# Altium integrated library Vishay Vitramon Ceramic Dipped Capacitor.IntLib: 3117 symbols (part 23 of 35)
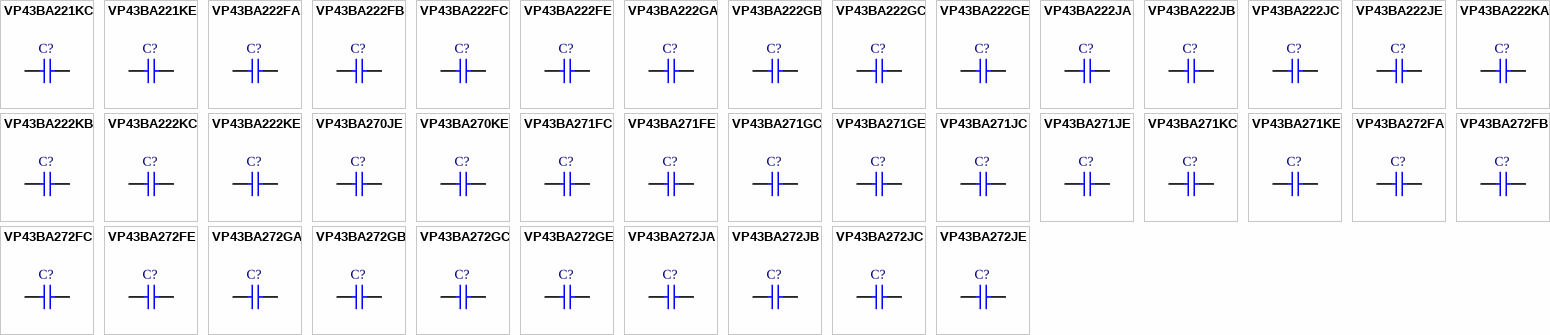
[diagram p99: symbols VP43BA221KC to VP43BA272JE]

## VP43BA222FE
designator C?
Dipped Radial Multilayer Ceramic Capacitor COG (NPO): 2200pF, 500V; Value: 2.2nF; Published: 17-Dec-2003; DatasheetDocument: 7-Jan-2002; PackageDocument: 7-Jan-2002; PackageReference: VP43-3.2; Publisher: Altium Limited; ComponentLink1Description: Manufacturer Link; ComponentLink1URL: http://www.vishay.com/
footprint VP43-3.2 (Capacitor, Ceramic, Thru-Hole, Dipped Radial; Body 6.8 x 3.2 mm (WxT) Pin Spacing 5.08 mm (typ))
simulation model CAP (Capacitor)
signal-integrity model Cap
pins: 1, 2

## VP43BA222GA
designator C?
Dipped Radial Multilayer Ceramic Capacitor COG (NPO): 2200pF, 50/63V; Note: See Datasheet for other packages & tolerances; Value: 2.2nF; Published: 17-Dec-2003; DatasheetDocument: 2-Jan-2002; PackageDocument: 8-Feb-2002; PackageReference: VP43-2.5; Publisher: Altium Limited; ComponentLink1Description: Manufacturer Link; ComponentLink1URL: http://www.vishay.com/
footprint VP43-2.5 (Capacitor, Ceramic, Thru-Hole, Dipped Radial; Body 6.8 x 2.5 mm (WxT) Pin Spacing 5.08 mm (typ))
simulation model CAP (Capacitor)
signal-integrity model Cap
pins: 1, 2

## VP43BA222GB
designator C?
Dipped Radial Multilayer Ceramic Capacitor COG (NPO): 2200pF, 100V; Note: See Datasheet for other packages & tolerances; Value: 2.2nF; Published: 17-Dec-2003; DatasheetDocument: 2-Jan-2002; PackageDocument: 8-Feb-2002; PackageReference: VP43-2.5; Publisher: Altium Limited; ComponentLink1Description: Manufacturer Link; ComponentLink1URL: http://www.vishay.com/
footprint VP43-2.5 (Capacitor, Ceramic, Thru-Hole, Dipped Radial; Body 6.8 x 2.5 mm (WxT) Pin Spacing 5.08 mm (typ))
simulation model CAP (Capacitor)
signal-integrity model Cap
pins: 1, 2

## VP43BA222GC
designator C?
Dipped Radial Multilayer Ceramic Capacitor COG (NPO): 2200pF, 200V; Value: 2.2nF; Published: 17-Dec-2003; DatasheetDocument: 7-Jan-2002; PackageDocument: 7-Jan-2002; PackageReference: VP43-3.2; Publisher: Altium Limited; ComponentLink1Description: Manufacturer Link; ComponentLink1URL: http://www.vishay.com/
footprint VP43-3.2 (Capacitor, Ceramic, Thru-Hole, Dipped Radial; Body 6.8 x 3.2 mm (WxT) Pin Spacing 5.08 mm (typ))
simulation model CAP (Capacitor)
signal-integrity model Cap
pins: 1, 2

## VP43BA222GE
designator C?
Dipped Radial Multilayer Ceramic Capacitor COG (NPO): 2200pF, 500V; Value: 2.2nF; Published: 17-Dec-2003; DatasheetDocument: 7-Jan-2002; PackageDocument: 7-Jan-2002; PackageReference: VP43-3.2; Publisher: Altium Limited; ComponentLink1Description: Manufacturer Link; ComponentLink1URL: http://www.vishay.com/
footprint VP43-3.2 (Capacitor, Ceramic, Thru-Hole, Dipped Radial; Body 6.8 x 3.2 mm (WxT) Pin Spacing 5.08 mm (typ))
simulation model CAP (Capacitor)
signal-integrity model Cap
pins: 1, 2

## VP43BA222JA
designator C?
Dipped Radial Multilayer Ceramic Capacitor COG (NPO): 2200pF, 50/63V; Note: See Datasheet for other packages & tolerances; Value: 2.2nF; Published: 17-Dec-2003; DatasheetDocument: 2-Jan-2002; PackageDocument: 8-Feb-2002; PackageReference: VP43-2.5; Publisher: Altium Limited; ComponentLink1Description: Manufacturer Link; ComponentLink1URL: http://www.vishay.com/
footprint VP43-2.5 (Capacitor, Ceramic, Thru-Hole, Dipped Radial; Body 6.8 x 2.5 mm (WxT) Pin Spacing 5.08 mm (typ))
simulation model CAP (Capacitor)
signal-integrity model Cap
pins: 1, 2

## VP43BA222JB
designator C?
Dipped Radial Multilayer Ceramic Capacitor COG (NPO): 2200pF, 100V; Note: See Datasheet for other packages & tolerances; Value: 2.2nF; Published: 17-Dec-2003; DatasheetDocument: 2-Jan-2002; PackageDocument: 8-Feb-2002; PackageReference: VP43-2.5; Publisher: Altium Limited; ComponentLink1Description: Manufacturer Link; ComponentLink1URL: http://www.vishay.com/
footprint VP43-2.5 (Capacitor, Ceramic, Thru-Hole, Dipped Radial; Body 6.8 x 2.5 mm (WxT) Pin Spacing 5.08 mm (typ))
simulation model CAP (Capacitor)
signal-integrity model Cap
pins: 1, 2

## VP43BA222JC
designator C?
Dipped Radial Multilayer Ceramic Capacitor COG (NPO): 2200pF, 200V; Value: 2.2nF; Published: 17-Dec-2003; DatasheetDocument: 7-Jan-2002; PackageDocument: 7-Jan-2002; PackageReference: VP43-3.2; Publisher: Altium Limited; ComponentLink1Description: Manufacturer Link; ComponentLink1URL: http://www.vishay.com/
footprint VP43-3.2 (Capacitor, Ceramic, Thru-Hole, Dipped Radial; Body 6.8 x 3.2 mm (WxT) Pin Spacing 5.08 mm (typ))
simulation model CAP (Capacitor)
signal-integrity model Cap
pins: 1, 2

## VP43BA222JE
designator C?
Dipped Radial Multilayer Ceramic Capacitor COG (NPO): 2200pF, 500V; Value: 2.2nF; Published: 17-Dec-2003; DatasheetDocument: 7-Jan-2002; PackageDocument: 7-Jan-2002; PackageReference: VP43-3.2; Publisher: Altium Limited; ComponentLink1Description: Manufacturer Link; ComponentLink1URL: http://www.vishay.com/
footprint VP43-3.2 (Capacitor, Ceramic, Thru-Hole, Dipped Radial; Body 6.8 x 3.2 mm (WxT) Pin Spacing 5.08 mm (typ))
simulation model CAP (Capacitor)
signal-integrity model Cap
pins: 1, 2

## VP43BA222KA
designator C?
Dipped Radial Multilayer Ceramic Capacitor COG (NPO): 2200pF, 50/63V; Note: See Datasheet for other packages & tolerances; Value: 2.2nF; Published: 17-Dec-2003; DatasheetDocument: 2-Jan-2002; PackageDocument: 8-Feb-2002; PackageReference: VP43-2.5; Publisher: Altium Limited; ComponentLink1Description: Manufacturer Link; ComponentLink1URL: http://www.vishay.com/
footprint VP43-2.5 (Capacitor, Ceramic, Thru-Hole, Dipped Radial; Body 6.8 x 2.5 mm (WxT) Pin Spacing 5.08 mm (typ))
simulation model CAP (Capacitor)
signal-integrity model Cap
pins: 1, 2

## VP43BA222KB
designator C?
Dipped Radial Multilayer Ceramic Capacitor COG (NPO): 2200pF, 100V; Note: See Datasheet for other packages & tolerances; Value: 2.2nF; Published: 17-Dec-2003; DatasheetDocument: 2-Jan-2002; PackageDocument: 8-Feb-2002; PackageReference: VP43-2.5; Publisher: Altium Limited; ComponentLink1Description: Manufacturer Link; ComponentLink1URL: http://www.vishay.com/
footprint VP43-2.5 (Capacitor, Ceramic, Thru-Hole, Dipped Radial; Body 6.8 x 2.5 mm (WxT) Pin Spacing 5.08 mm (typ))
simulation model CAP (Capacitor)
signal-integrity model Cap
pins: 1, 2

## VP43BA222KC
designator C?
Dipped Radial Multilayer Ceramic Capacitor COG (NPO): 2200pF, 200V; Value: 2.2nF; Published: 17-Dec-2003; DatasheetDocument: 7-Jan-2002; PackageDocument: 7-Jan-2002; PackageReference: VP43-3.2; Publisher: Altium Limited; ComponentLink1Description: Manufacturer Link; ComponentLink1URL: http://www.vishay.com/
footprint VP43-3.2 (Capacitor, Ceramic, Thru-Hole, Dipped Radial; Body 6.8 x 3.2 mm (WxT) Pin Spacing 5.08 mm (typ))
simulation model CAP (Capacitor)
signal-integrity model Cap
pins: 1, 2

## VP43BA222KE
designator C?
Dipped Radial Multilayer Ceramic Capacitor COG (NPO): 2200pF, 500V; Value: 2.2nF; Published: 17-Dec-2003; DatasheetDocument: 7-Jan-2002; PackageDocument: 7-Jan-2002; PackageReference: VP43-3.2; Publisher: Altium Limited; ComponentLink1Description: Manufacturer Link; ComponentLink1URL: http://www.vishay.com/
footprint VP43-3.2 (Capacitor, Ceramic, Thru-Hole, Dipped Radial; Body 6.8 x 3.2 mm (WxT) Pin Spacing 5.08 mm (typ))
simulation model CAP (Capacitor)
signal-integrity model Cap
pins: 1, 2

## VP43BA270JE
designator C?
Dipped Radial Multilayer Ceramic Capacitor COG (NPO): 27pF, 500V; Published: 17-Dec-2003; DatasheetDocument: 7-Jan-2002; PackageDocument: 7-Jan-2002; PackageReference: VP43-3.2; Publisher: Altium Limited; ComponentLink1Description: Manufacturer Link; ComponentLink1URL: http://www.vishay.com/; Value: 27pF
footprint VP43-3.2 (Capacitor, Ceramic, Thru-Hole, Dipped Radial; Body 6.8 x 3.2 mm (WxT) Pin Spacing 5.08 mm (typ))
simulation model CAP (Capacitor)
signal-integrity model Cap
pins: 1, 2

## VP43BA270KE
designator C?
Dipped Radial Multilayer Ceramic Capacitor COG (NPO): 27pF, 500V; Published: 17-Dec-2003; DatasheetDocument: 7-Jan-2002; PackageDocument: 7-Jan-2002; PackageReference: VP43-3.2; Publisher: Altium Limited; ComponentLink1Description: Manufacturer Link; ComponentLink1URL: http://www.vishay.com/; Value: 27pF
footprint VP43-3.2 (Capacitor, Ceramic, Thru-Hole, Dipped Radial; Body 6.8 x 3.2 mm (WxT) Pin Spacing 5.08 mm (typ))
simulation model CAP (Capacitor)
signal-integrity model Cap
pins: 1, 2

## VP43BA271FC
designator C?
Dipped Radial Multilayer Ceramic Capacitor COG (NPO): 270pF, 200V; Published: 17-Dec-2003; DatasheetDocument: 7-Jan-2002; PackageDocument: 7-Jan-2002; PackageReference: VP43-3.2; Publisher: Altium Limited; ComponentLink1Description: Manufacturer Link; ComponentLink1URL: http://www.vishay.com/; Value: 270pF
footprint VP43-3.2 (Capacitor, Ceramic, Thru-Hole, Dipped Radial; Body 6.8 x 3.2 mm (WxT) Pin Spacing 5.08 mm (typ))
simulation model CAP (Capacitor)
signal-integrity model Cap
pins: 1, 2

## VP43BA271FE
designator C?
Dipped Radial Multilayer Ceramic Capacitor COG (NPO): 270pF, 500V; Published: 17-Dec-2003; DatasheetDocument: 7-Jan-2002; PackageDocument: 7-Jan-2002; PackageReference: VP43-3.2; Publisher: Altium Limited; ComponentLink1Description: Manufacturer Link; ComponentLink1URL: http://www.vishay.com/; Value: 270pF
footprint VP43-3.2 (Capacitor, Ceramic, Thru-Hole, Dipped Radial; Body 6.8 x 3.2 mm (WxT) Pin Spacing 5.08 mm (typ))
simulation model CAP (Capacitor)
signal-integrity model Cap
pins: 1, 2

## VP43BA271GC
designator C?
Dipped Radial Multilayer Ceramic Capacitor COG (NPO): 270pF, 200V; Published: 17-Dec-2003; DatasheetDocument: 7-Jan-2002; PackageDocument: 7-Jan-2002; PackageReference: VP43-3.2; Publisher: Altium Limited; ComponentLink1Description: Manufacturer Link; ComponentLink1URL: http://www.vishay.com/; Value: 270pF
footprint VP43-3.2 (Capacitor, Ceramic, Thru-Hole, Dipped Radial; Body 6.8 x 3.2 mm (WxT) Pin Spacing 5.08 mm (typ))
simulation model CAP (Capacitor)
signal-integrity model Cap
pins: 1, 2

## VP43BA271GE
designator C?
Dipped Radial Multilayer Ceramic Capacitor COG (NPO): 270pF, 500V; Published: 17-Dec-2003; DatasheetDocument: 7-Jan-2002; PackageDocument: 7-Jan-2002; PackageReference: VP43-3.2; Publisher: Altium Limited; ComponentLink1Description: Manufacturer Link; ComponentLink1URL: http://www.vishay.com/; Value: 270pF
footprint VP43-3.2 (Capacitor, Ceramic, Thru-Hole, Dipped Radial; Body 6.8 x 3.2 mm (WxT) Pin Spacing 5.08 mm (typ))
simulation model CAP (Capacitor)
signal-integrity model Cap
pins: 1, 2

## VP43BA271JC
designator C?
Dipped Radial Multilayer Ceramic Capacitor COG (NPO): 270pF, 200V; Published: 17-Dec-2003; DatasheetDocument: 7-Jan-2002; PackageDocument: 7-Jan-2002; PackageReference: VP43-3.2; Publisher: Altium Limited; ComponentLink1Description: Manufacturer Link; ComponentLink1URL: http://www.vishay.com/; Value: 270pF
footprint VP43-3.2 (Capacitor, Ceramic, Thru-Hole, Dipped Radial; Body 6.8 x 3.2 mm (WxT) Pin Spacing 5.08 mm (typ))
simulation model CAP (Capacitor)
signal-integrity model Cap
pins: 1, 2

## VP43BA271JE
designator C?
Dipped Radial Multilayer Ceramic Capacitor COG (NPO): 270pF, 500V; Published: 17-Dec-2003; DatasheetDocument: 7-Jan-2002; PackageDocument: 7-Jan-2002; PackageReference: VP43-3.2; Publisher: Altium Limited; ComponentLink1Description: Manufacturer Link; ComponentLink1URL: http://www.vishay.com/; Value: 270pF
footprint VP43-3.2 (Capacitor, Ceramic, Thru-Hole, Dipped Radial; Body 6.8 x 3.2 mm (WxT) Pin Spacing 5.08 mm (typ))
simulation model CAP (Capacitor)
signal-integrity model Cap
pins: 1, 2

## VP43BA271KC
designator C?
Dipped Radial Multilayer Ceramic Capacitor COG (NPO): 270pF, 200V; Published: 17-Dec-2003; DatasheetDocument: 7-Jan-2002; PackageDocument: 7-Jan-2002; PackageReference: VP43-3.2; Publisher: Altium Limited; ComponentLink1Description: Manufacturer Link; ComponentLink1URL: http://www.vishay.com/; Value: 270pF
footprint VP43-3.2 (Capacitor, Ceramic, Thru-Hole, Dipped Radial; Body 6.8 x 3.2 mm (WxT) Pin Spacing 5.08 mm (typ))
simulation model CAP (Capacitor)
signal-integrity model Cap
pins: 1, 2

## VP43BA271KE
designator C?
Dipped Radial Multilayer Ceramic Capacitor COG (NPO): 270pF, 500V; Published: 17-Dec-2003; DatasheetDocument: 7-Jan-2002; PackageDocument: 7-Jan-2002; PackageReference: VP43-3.2; Publisher: Altium Limited; ComponentLink1Description: Manufacturer Link; ComponentLink1URL: http://www.vishay.com/; Value: 270pF
footprint VP43-3.2 (Capacitor, Ceramic, Thru-Hole, Dipped Radial; Body 6.8 x 3.2 mm (WxT) Pin Spacing 5.08 mm (typ))
simulation model CAP (Capacitor)
signal-integrity model Cap
pins: 1, 2

## VP43BA272FA
designator C?
Dipped Radial Multilayer Ceramic Capacitor COG (NPO): 2700pF, 50/63V; Note: See Datasheet for other packages & tolerances; Value: 2.7nF; Published: 17-Dec-2003; DatasheetDocument: 2-Jan-2002; PackageDocument: 8-Feb-2002; PackageReference: VP43-2.5; Publisher: Altium Limited; ComponentLink1Description: Manufacturer Link; ComponentLink1URL: http://www.vishay.com/
footprint VP43-2.5 (Capacitor, Ceramic, Thru-Hole, Dipped Radial; Body 6.8 x 2.5 mm (WxT) Pin Spacing 5.08 mm (typ))
simulation model CAP (Capacitor)
signal-integrity model Cap
pins: 1, 2

## VP43BA272FB
designator C?
Dipped Radial Multilayer Ceramic Capacitor COG (NPO): 2700pF, 100V; Note: See Datasheet for other packages & tolerances; Value: 2.7nF; Published: 17-Dec-2003; DatasheetDocument: 2-Jan-2002; PackageDocument: 8-Feb-2002; PackageReference: VP43-2.5; Publisher: Altium Limited; ComponentLink1Description: Manufacturer Link; ComponentLink1URL: http://www.vishay.com/
footprint VP43-2.5 (Capacitor, Ceramic, Thru-Hole, Dipped Radial; Body 6.8 x 2.5 mm (WxT) Pin Spacing 5.08 mm (typ))
simulation model CAP (Capacitor)
signal-integrity model Cap
pins: 1, 2

## VP43BA272FC
designator C?
Dipped Radial Multilayer Ceramic Capacitor COG (NPO): 2700pF, 200V; Value: 2.7nF; Published: 17-Dec-2003; DatasheetDocument: 7-Jan-2002; PackageDocument: 7-Jan-2002; PackageReference: VP43-3.2; Publisher: Altium Limited; ComponentLink1Description: Manufacturer Link; ComponentLink1URL: http://www.vishay.com/
footprint VP43-3.2 (Capacitor, Ceramic, Thru-Hole, Dipped Radial; Body 6.8 x 3.2 mm (WxT) Pin Spacing 5.08 mm (typ))
simulation model CAP (Capacitor)
signal-integrity model Cap
pins: 1, 2

## VP43BA272FE
designator C?
Dipped Radial Multilayer Ceramic Capacitor COG (NPO): 2700pF, 500V; Value: 2.7nF; Published: 17-Dec-2003; DatasheetDocument: 7-Jan-2002; PackageDocument: 7-Jan-2002; PackageReference: VP43-3.2; Publisher: Altium Limited; ComponentLink1Description: Manufacturer Link; ComponentLink1URL: http://www.vishay.com/
footprint VP43-3.2 (Capacitor, Ceramic, Thru-Hole, Dipped Radial; Body 6.8 x 3.2 mm (WxT) Pin Spacing 5.08 mm (typ))
simulation model CAP (Capacitor)
signal-integrity model Cap
pins: 1, 2

## VP43BA272GA
designator C?
Dipped Radial Multilayer Ceramic Capacitor COG (NPO): 2700pF, 50/63V; Note: See Datasheet for other packages & tolerances; Value: 2.7nF; Published: 17-Dec-2003; DatasheetDocument: 2-Jan-2002; PackageDocument: 8-Feb-2002; PackageReference: VP43-2.5; Publisher: Altium Limited; ComponentLink1Description: Manufacturer Link; ComponentLink1URL: http://www.vishay.com/
footprint VP43-2.5 (Capacitor, Ceramic, Thru-Hole, Dipped Radial; Body 6.8 x 2.5 mm (WxT) Pin Spacing 5.08 mm (typ))
simulation model CAP (Capacitor)
signal-integrity model Cap
pins: 1, 2

## VP43BA272GB
designator C?
Dipped Radial Multilayer Ceramic Capacitor COG (NPO): 2700pF, 100V; Note: See Datasheet for other packages & tolerances; Value: 2.7nF; Published: 17-Dec-2003; DatasheetDocument: 2-Jan-2002; PackageDocument: 8-Feb-2002; PackageReference: VP43-2.5; Publisher: Altium Limited; ComponentLink1Description: Manufacturer Link; ComponentLink1URL: http://www.vishay.com/
footprint VP43-2.5 (Capacitor, Ceramic, Thru-Hole, Dipped Radial; Body 6.8 x 2.5 mm (WxT) Pin Spacing 5.08 mm (typ))
simulation model CAP (Capacitor)
signal-integrity model Cap
pins: 1, 2

## VP43BA272GC
designator C?
Dipped Radial Multilayer Ceramic Capacitor COG (NPO): 2700pF, 200V; Value: 2.7nF; Published: 17-Dec-2003; DatasheetDocument: 7-Jan-2002; PackageDocument: 7-Jan-2002; PackageReference: VP43-3.2; Publisher: Altium Limited; ComponentLink1Description: Manufacturer Link; ComponentLink1URL: http://www.vishay.com/
footprint VP43-3.2 (Capacitor, Ceramic, Thru-Hole, Dipped Radial; Body 6.8 x 3.2 mm (WxT) Pin Spacing 5.08 mm (typ))
simulation model CAP (Capacitor)
signal-integrity model Cap
pins: 1, 2

## VP43BA272GE
designator C?
Dipped Radial Multilayer Ceramic Capacitor COG (NPO): 2700pF, 500V; Value: 2.7nF; Published: 17-Dec-2003; DatasheetDocument: 7-Jan-2002; PackageDocument: 7-Jan-2002; PackageReference: VP43-3.2; Publisher: Altium Limited; ComponentLink1Description: Manufacturer Link; ComponentLink1URL: http://www.vishay.com/
footprint VP43-3.2 (Capacitor, Ceramic, Thru-Hole, Dipped Radial; Body 6.8 x 3.2 mm (WxT) Pin Spacing 5.08 mm (typ))
simulation model CAP (Capacitor)
signal-integrity model Cap
pins: 1, 2

## VP43BA272JA
designator C?
Dipped Radial Multilayer Ceramic Capacitor COG (NPO): 2700pF, 50/63V; Note: See Datasheet for other packages & tolerances; Value: 2.7nF; Published: 17-Dec-2003; DatasheetDocument: 2-Jan-2002; PackageDocument: 8-Feb-2002; PackageReference: VP43-2.5; Publisher: Altium Limited; ComponentLink1Description: Manufacturer Link; ComponentLink1URL: http://www.vishay.com/
footprint VP43-2.5 (Capacitor, Ceramic, Thru-Hole, Dipped Radial; Body 6.8 x 2.5 mm (WxT) Pin Spacing 5.08 mm (typ))
simulation model CAP (Capacitor)
signal-integrity model Cap
pins: 1, 2

## VP43BA272JB
designator C?
Dipped Radial Multilayer Ceramic Capacitor COG (NPO): 2700pF, 100V; Note: See Datasheet for other packages & tolerances; Value: 2.7nF; Published: 17-Dec-2003; DatasheetDocument: 2-Jan-2002; PackageDocument: 8-Feb-2002; PackageReference: VP43-2.5; Publisher: Altium Limited; ComponentLink1Description: Manufacturer Link; ComponentLink1URL: http://www.vishay.com/
footprint VP43-2.5 (Capacitor, Ceramic, Thru-Hole, Dipped Radial; Body 6.8 x 2.5 mm (WxT) Pin Spacing 5.08 mm (typ))
simulation model CAP (Capacitor)
signal-integrity model Cap
pins: 1, 2

## VP43BA272JC
designator C?
Dipped Radial Multilayer Ceramic Capacitor COG (NPO): 2700pF, 200V; Value: 2.7nF; Published: 17-Dec-2003; DatasheetDocument: 7-Jan-2002; PackageDocument: 7-Jan-2002; PackageReference: VP43-3.2; Publisher: Altium Limited; ComponentLink1Description: Manufacturer Link; ComponentLink1URL: http://www.vishay.com/
footprint VP43-3.2 (Capacitor, Ceramic, Thru-Hole, Dipped Radial; Body 6.8 x 3.2 mm (WxT) Pin Spacing 5.08 mm (typ))
simulation model CAP (Capacitor)
signal-integrity model Cap
pins: 1, 2

## VP43BA272JE
designator C?
Dipped Radial Multilayer Ceramic Capacitor COG (NPO): 2700pF, 500V; Value: 2.7nF; Published: 17-Dec-2003; DatasheetDocument: 7-Jan-2002; PackageDocument: 7-Jan-2002; PackageReference: VP43-3.2; Publisher: Altium Limited; ComponentLink1Description: Manufacturer Link; ComponentLink1URL: http://www.vishay.com/
footprint VP43-3.2 (Capacitor, Ceramic, Thru-Hole, Dipped Radial; Body 6.8 x 3.2 mm (WxT) Pin Spacing 5.08 mm (typ))
simulation model CAP (Capacitor)
signal-integrity model Cap
pins: 1, 2

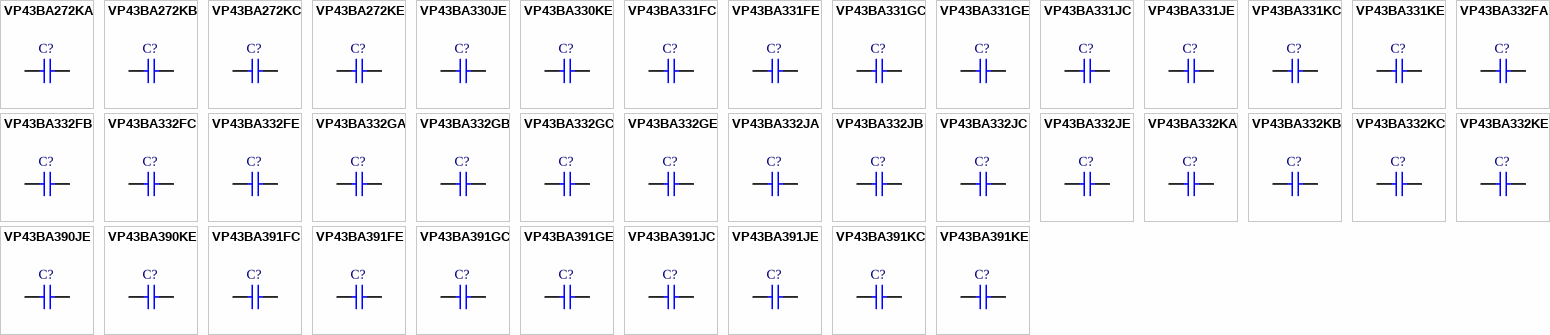
[diagram p50: symbols VP43BA272KA to VP43BA391KE]

## VP43BA272KA
designator C?
Dipped Radial Multilayer Ceramic Capacitor COG (NPO): 2700pF, 50/63V; Note: See Datasheet for other packages & tolerances; Value: 2.7nF; Published: 17-Dec-2003; DatasheetDocument: 2-Jan-2002; PackageDocument: 8-Feb-2002; PackageReference: VP43-2.5; Publisher: Altium Limited; ComponentLink1Description: Manufacturer Link; ComponentLink1URL: http://www.vishay.com/
footprint VP43-2.5 (Capacitor, Ceramic, Thru-Hole, Dipped Radial; Body 6.8 x 2.5 mm (WxT) Pin Spacing 5.08 mm (typ))
simulation model CAP (Capacitor)
signal-integrity model Cap
pins: 1, 2

## VP43BA272KB
designator C?
Dipped Radial Multilayer Ceramic Capacitor COG (NPO): 2700pF, 100V; Note: See Datasheet for other packages & tolerances; Value: 2.7nF; Published: 17-Dec-2003; DatasheetDocument: 2-Jan-2002; PackageDocument: 8-Feb-2002; PackageReference: VP43-2.5; Publisher: Altium Limited; ComponentLink1Description: Manufacturer Link; ComponentLink1URL: http://www.vishay.com/
footprint VP43-2.5 (Capacitor, Ceramic, Thru-Hole, Dipped Radial; Body 6.8 x 2.5 mm (WxT) Pin Spacing 5.08 mm (typ))
simulation model CAP (Capacitor)
signal-integrity model Cap
pins: 1, 2

## VP43BA272KC
designator C?
Dipped Radial Multilayer Ceramic Capacitor COG (NPO): 2700pF, 200V; Value: 2.7nF; Published: 17-Dec-2003; DatasheetDocument: 7-Jan-2002; PackageDocument: 7-Jan-2002; PackageReference: VP43-3.2; Publisher: Altium Limited; ComponentLink1Description: Manufacturer Link; ComponentLink1URL: http://www.vishay.com/
footprint VP43-3.2 (Capacitor, Ceramic, Thru-Hole, Dipped Radial; Body 6.8 x 3.2 mm (WxT) Pin Spacing 5.08 mm (typ))
simulation model CAP (Capacitor)
signal-integrity model Cap
pins: 1, 2

## VP43BA272KE
designator C?
Dipped Radial Multilayer Ceramic Capacitor COG (NPO): 2700pF, 500V; Value: 2.7nF; Published: 17-Dec-2003; DatasheetDocument: 7-Jan-2002; PackageDocument: 7-Jan-2002; PackageReference: VP43-3.2; Publisher: Altium Limited; ComponentLink1Description: Manufacturer Link; ComponentLink1URL: http://www.vishay.com/
footprint VP43-3.2 (Capacitor, Ceramic, Thru-Hole, Dipped Radial; Body 6.8 x 3.2 mm (WxT) Pin Spacing 5.08 mm (typ))
simulation model CAP (Capacitor)
signal-integrity model Cap
pins: 1, 2

## VP43BA330JE
designator C?
Dipped Radial Multilayer Ceramic Capacitor COG (NPO): 33pF, 500V; Published: 17-Dec-2003; DatasheetDocument: 7-Jan-2002; PackageDocument: 7-Jan-2002; PackageReference: VP43-3.2; Publisher: Altium Limited; ComponentLink1Description: Manufacturer Link; ComponentLink1URL: http://www.vishay.com/; Value: 33pF
footprint VP43-3.2 (Capacitor, Ceramic, Thru-Hole, Dipped Radial; Body 6.8 x 3.2 mm (WxT) Pin Spacing 5.08 mm (typ))
simulation model CAP (Capacitor)
signal-integrity model Cap
pins: 1, 2

## VP43BA330KE
designator C?
Dipped Radial Multilayer Ceramic Capacitor COG (NPO): 33pF, 500V; Published: 17-Dec-2003; DatasheetDocument: 7-Jan-2002; PackageDocument: 7-Jan-2002; PackageReference: VP43-3.2; Publisher: Altium Limited; ComponentLink1Description: Manufacturer Link; ComponentLink1URL: http://www.vishay.com/; Value: 33pF
footprint VP43-3.2 (Capacitor, Ceramic, Thru-Hole, Dipped Radial; Body 6.8 x 3.2 mm (WxT) Pin Spacing 5.08 mm (typ))
simulation model CAP (Capacitor)
signal-integrity model Cap
pins: 1, 2

## VP43BA331FC
designator C?
Dipped Radial Multilayer Ceramic Capacitor COG (NPO): 330pF, 200V; Published: 17-Dec-2003; DatasheetDocument: 7-Jan-2002; PackageDocument: 7-Jan-2002; PackageReference: VP43-3.2; Publisher: Altium Limited; ComponentLink1Description: Manufacturer Link; ComponentLink1URL: http://www.vishay.com/; Value: 330pF
footprint VP43-3.2 (Capacitor, Ceramic, Thru-Hole, Dipped Radial; Body 6.8 x 3.2 mm (WxT) Pin Spacing 5.08 mm (typ))
simulation model CAP (Capacitor)
signal-integrity model Cap
pins: 1, 2

## VP43BA331FE
designator C?
Dipped Radial Multilayer Ceramic Capacitor COG (NPO): 330pF, 500V; Published: 17-Dec-2003; DatasheetDocument: 7-Jan-2002; PackageDocument: 7-Jan-2002; PackageReference: VP43-3.2; Publisher: Altium Limited; ComponentLink1Description: Manufacturer Link; ComponentLink1URL: http://www.vishay.com/; Value: 330pF
footprint VP43-3.2 (Capacitor, Ceramic, Thru-Hole, Dipped Radial; Body 6.8 x 3.2 mm (WxT) Pin Spacing 5.08 mm (typ))
simulation model CAP (Capacitor)
signal-integrity model Cap
pins: 1, 2

## VP43BA331GC
designator C?
Dipped Radial Multilayer Ceramic Capacitor COG (NPO): 330pF, 200V; Published: 17-Dec-2003; DatasheetDocument: 7-Jan-2002; PackageDocument: 7-Jan-2002; PackageReference: VP43-3.2; Publisher: Altium Limited; ComponentLink1Description: Manufacturer Link; ComponentLink1URL: http://www.vishay.com/; Value: 330pF
footprint VP43-3.2 (Capacitor, Ceramic, Thru-Hole, Dipped Radial; Body 6.8 x 3.2 mm (WxT) Pin Spacing 5.08 mm (typ))
simulation model CAP (Capacitor)
signal-integrity model Cap
pins: 1, 2

## VP43BA331GE
designator C?
Dipped Radial Multilayer Ceramic Capacitor COG (NPO): 330pF, 500V; Published: 17-Dec-2003; DatasheetDocument: 7-Jan-2002; PackageDocument: 7-Jan-2002; PackageReference: VP43-3.2; Publisher: Altium Limited; ComponentLink1Description: Manufacturer Link; ComponentLink1URL: http://www.vishay.com/; Value: 330pF
footprint VP43-3.2 (Capacitor, Ceramic, Thru-Hole, Dipped Radial; Body 6.8 x 3.2 mm (WxT) Pin Spacing 5.08 mm (typ))
simulation model CAP (Capacitor)
signal-integrity model Cap
pins: 1, 2

## VP43BA331JC
designator C?
Dipped Radial Multilayer Ceramic Capacitor COG (NPO): 330pF, 200V; Published: 17-Dec-2003; DatasheetDocument: 7-Jan-2002; PackageDocument: 7-Jan-2002; PackageReference: VP43-3.2; Publisher: Altium Limited; ComponentLink1Description: Manufacturer Link; ComponentLink1URL: http://www.vishay.com/; Value: 330pF
footprint VP43-3.2 (Capacitor, Ceramic, Thru-Hole, Dipped Radial; Body 6.8 x 3.2 mm (WxT) Pin Spacing 5.08 mm (typ))
simulation model CAP (Capacitor)
signal-integrity model Cap
pins: 1, 2

## VP43BA331JE
designator C?
Dipped Radial Multilayer Ceramic Capacitor COG (NPO): 330pF, 500V; Published: 17-Dec-2003; DatasheetDocument: 7-Jan-2002; PackageDocument: 7-Jan-2002; PackageReference: VP43-3.2; Publisher: Altium Limited; ComponentLink1Description: Manufacturer Link; ComponentLink1URL: http://www.vishay.com/; Value: 330pF
footprint VP43-3.2 (Capacitor, Ceramic, Thru-Hole, Dipped Radial; Body 6.8 x 3.2 mm (WxT) Pin Spacing 5.08 mm (typ))
simulation model CAP (Capacitor)
signal-integrity model Cap
pins: 1, 2

## VP43BA331KC
designator C?
Dipped Radial Multilayer Ceramic Capacitor COG (NPO): 330pF, 200V; Published: 17-Dec-2003; DatasheetDocument: 7-Jan-2002; PackageDocument: 7-Jan-2002; PackageReference: VP43-3.2; Publisher: Altium Limited; ComponentLink1Description: Manufacturer Link; ComponentLink1URL: http://www.vishay.com/; Value: 330pF
footprint VP43-3.2 (Capacitor, Ceramic, Thru-Hole, Dipped Radial; Body 6.8 x 3.2 mm (WxT) Pin Spacing 5.08 mm (typ))
simulation model CAP (Capacitor)
signal-integrity model Cap
pins: 1, 2

## VP43BA331KE
designator C?
Dipped Radial Multilayer Ceramic Capacitor COG (NPO): 330pF, 500V; Published: 17-Dec-2003; DatasheetDocument: 7-Jan-2002; PackageDocument: 7-Jan-2002; PackageReference: VP43-3.2; Publisher: Altium Limited; ComponentLink1Description: Manufacturer Link; ComponentLink1URL: http://www.vishay.com/; Value: 330pF
footprint VP43-3.2 (Capacitor, Ceramic, Thru-Hole, Dipped Radial; Body 6.8 x 3.2 mm (WxT) Pin Spacing 5.08 mm (typ))
simulation model CAP (Capacitor)
signal-integrity model Cap
pins: 1, 2

## VP43BA332FA
designator C?
Dipped Radial Multilayer Ceramic Capacitor COG (NPO): 3300pF, 50/63V; Note: See Datasheet for other packages & tolerances; Value: 3.3nF; Published: 17-Dec-2003; DatasheetDocument: 2-Jan-2002; PackageDocument: 8-Feb-2002; PackageReference: VP43-2.5; Publisher: Altium Limited; ComponentLink1Description: Manufacturer Link; ComponentLink1URL: http://www.vishay.com/
footprint VP43-2.5 (Capacitor, Ceramic, Thru-Hole, Dipped Radial; Body 6.8 x 2.5 mm (WxT) Pin Spacing 5.08 mm (typ))
simulation model CAP (Capacitor)
signal-integrity model Cap
pins: 1, 2

## VP43BA332FB
designator C?
Dipped Radial Multilayer Ceramic Capacitor COG (NPO): 3300pF, 100V; Note: See Datasheet for other packages & tolerances; Value: 3.3nF; Published: 17-Dec-2003; DatasheetDocument: 2-Jan-2002; PackageDocument: 8-Feb-2002; PackageReference: VP43-2.5; Publisher: Altium Limited; ComponentLink1Description: Manufacturer Link; ComponentLink1URL: http://www.vishay.com/
footprint VP43-2.5 (Capacitor, Ceramic, Thru-Hole, Dipped Radial; Body 6.8 x 2.5 mm (WxT) Pin Spacing 5.08 mm (typ))
simulation model CAP (Capacitor)
signal-integrity model Cap
pins: 1, 2

## VP43BA332FC
designator C?
Dipped Radial Multilayer Ceramic Capacitor COG (NPO): 3300pF, 200V; Value: 3.3nF; Published: 17-Dec-2003; DatasheetDocument: 7-Jan-2002; PackageDocument: 7-Jan-2002; PackageReference: VP43-3.2; Publisher: Altium Limited; ComponentLink1Description: Manufacturer Link; ComponentLink1URL: http://www.vishay.com/
footprint VP43-3.2 (Capacitor, Ceramic, Thru-Hole, Dipped Radial; Body 6.8 x 3.2 mm (WxT) Pin Spacing 5.08 mm (typ))
simulation model CAP (Capacitor)
signal-integrity model Cap
pins: 1, 2

## VP43BA332FE
designator C?
Dipped Radial Multilayer Ceramic Capacitor COG (NPO): 3300pF, 500V; Value: 3.3nF; Published: 17-Dec-2003; DatasheetDocument: 7-Jan-2002; PackageDocument: 7-Jan-2002; PackageReference: VP43-3.2; Publisher: Altium Limited; ComponentLink1Description: Manufacturer Link; ComponentLink1URL: http://www.vishay.com/
footprint VP43-3.2 (Capacitor, Ceramic, Thru-Hole, Dipped Radial; Body 6.8 x 3.2 mm (WxT) Pin Spacing 5.08 mm (typ))
simulation model CAP (Capacitor)
signal-integrity model Cap
pins: 1, 2

## VP43BA332GA
designator C?
Dipped Radial Multilayer Ceramic Capacitor COG (NPO): 3300pF, 50/63V; Note: See Datasheet for other packages & tolerances; Value: 3.3nF; Published: 17-Dec-2003; DatasheetDocument: 2-Jan-2002; PackageDocument: 8-Feb-2002; PackageReference: VP43-2.5; Publisher: Altium Limited; ComponentLink1Description: Manufacturer Link; ComponentLink1URL: http://www.vishay.com/
footprint VP43-2.5 (Capacitor, Ceramic, Thru-Hole, Dipped Radial; Body 6.8 x 2.5 mm (WxT) Pin Spacing 5.08 mm (typ))
simulation model CAP (Capacitor)
signal-integrity model Cap
pins: 1, 2

## VP43BA332GB
designator C?
Dipped Radial Multilayer Ceramic Capacitor COG (NPO): 3300pF, 100V; Note: See Datasheet for other packages & tolerances; Value: 3.3nF; Published: 17-Dec-2003; DatasheetDocument: 2-Jan-2002; PackageDocument: 8-Feb-2002; PackageReference: VP43-2.5; Publisher: Altium Limited; ComponentLink1Description: Manufacturer Link; ComponentLink1URL: http://www.vishay.com/
footprint VP43-2.5 (Capacitor, Ceramic, Thru-Hole, Dipped Radial; Body 6.8 x 2.5 mm (WxT) Pin Spacing 5.08 mm (typ))
simulation model CAP (Capacitor)
signal-integrity model Cap
pins: 1, 2

## VP43BA332GC
designator C?
Dipped Radial Multilayer Ceramic Capacitor COG (NPO): 3300pF, 200V; Value: 3.3nF; Published: 17-Dec-2003; DatasheetDocument: 7-Jan-2002; PackageDocument: 7-Jan-2002; PackageReference: VP43-3.2; Publisher: Altium Limited; ComponentLink1Description: Manufacturer Link; ComponentLink1URL: http://www.vishay.com/
footprint VP43-3.2 (Capacitor, Ceramic, Thru-Hole, Dipped Radial; Body 6.8 x 3.2 mm (WxT) Pin Spacing 5.08 mm (typ))
simulation model CAP (Capacitor)
signal-integrity model Cap
pins: 1, 2

## VP43BA332GE
designator C?
Dipped Radial Multilayer Ceramic Capacitor COG (NPO): 3300pF, 500V; Value: 3.3nF; Published: 17-Dec-2003; DatasheetDocument: 7-Jan-2002; PackageDocument: 7-Jan-2002; PackageReference: VP43-3.2; Publisher: Altium Limited; ComponentLink1Description: Manufacturer Link; ComponentLink1URL: http://www.vishay.com/
footprint VP43-3.2 (Capacitor, Ceramic, Thru-Hole, Dipped Radial; Body 6.8 x 3.2 mm (WxT) Pin Spacing 5.08 mm (typ))
simulation model CAP (Capacitor)
signal-integrity model Cap
pins: 1, 2

## VP43BA332JA
designator C?
Dipped Radial Multilayer Ceramic Capacitor COG (NPO): 3300pF, 50/63V; Note: See Datasheet for other packages & tolerances; Value: 3.3nF; Published: 17-Dec-2003; DatasheetDocument: 2-Jan-2002; PackageDocument: 8-Feb-2002; PackageReference: VP43-2.5; Publisher: Altium Limited; ComponentLink1Description: Manufacturer Link; ComponentLink1URL: http://www.vishay.com/
footprint VP43-2.5 (Capacitor, Ceramic, Thru-Hole, Dipped Radial; Body 6.8 x 2.5 mm (WxT) Pin Spacing 5.08 mm (typ))
simulation model CAP (Capacitor)
signal-integrity model Cap
pins: 1, 2

## VP43BA332JB
designator C?
Dipped Radial Multilayer Ceramic Capacitor COG (NPO): 3300pF, 100V; Note: See Datasheet for other packages & tolerances; Value: 3.3nF; Published: 17-Dec-2003; DatasheetDocument: 2-Jan-2002; PackageDocument: 8-Feb-2002; PackageReference: VP43-2.5; Publisher: Altium Limited; ComponentLink1Description: Manufacturer Link; ComponentLink1URL: http://www.vishay.com/
footprint VP43-2.5 (Capacitor, Ceramic, Thru-Hole, Dipped Radial; Body 6.8 x 2.5 mm (WxT) Pin Spacing 5.08 mm (typ))
simulation model CAP (Capacitor)
signal-integrity model Cap
pins: 1, 2

## VP43BA332JC
designator C?
Dipped Radial Multilayer Ceramic Capacitor COG (NPO): 3300pF, 200V; Value: 3.3nF; Published: 17-Dec-2003; DatasheetDocument: 7-Jan-2002; PackageDocument: 7-Jan-2002; PackageReference: VP43-3.2; Publisher: Altium Limited; ComponentLink1Description: Manufacturer Link; ComponentLink1URL: http://www.vishay.com/
footprint VP43-3.2 (Capacitor, Ceramic, Thru-Hole, Dipped Radial; Body 6.8 x 3.2 mm (WxT) Pin Spacing 5.08 mm (typ))
simulation model CAP (Capacitor)
signal-integrity model Cap
pins: 1, 2

## VP43BA332JE
designator C?
Dipped Radial Multilayer Ceramic Capacitor COG (NPO): 3300pF, 500V; Value: 3.3nF; Published: 17-Dec-2003; DatasheetDocument: 7-Jan-2002; PackageDocument: 7-Jan-2002; PackageReference: VP43-3.2; Publisher: Altium Limited; ComponentLink1Description: Manufacturer Link; ComponentLink1URL: http://www.vishay.com/
footprint VP43-3.2 (Capacitor, Ceramic, Thru-Hole, Dipped Radial; Body 6.8 x 3.2 mm (WxT) Pin Spacing 5.08 mm (typ))
simulation model CAP (Capacitor)
signal-integrity model Cap
pins: 1, 2

## VP43BA332KA
designator C?
Dipped Radial Multilayer Ceramic Capacitor COG (NPO): 3300pF, 50/63V; Note: See Datasheet for other packages & tolerances; Value: 3.3nF; Published: 17-Dec-2003; DatasheetDocument: 2-Jan-2002; PackageDocument: 8-Feb-2002; PackageReference: VP43-2.5; Publisher: Altium Limited; ComponentLink1Description: Manufacturer Link; ComponentLink1URL: http://www.vishay.com/
footprint VP43-2.5 (Capacitor, Ceramic, Thru-Hole, Dipped Radial; Body 6.8 x 2.5 mm (WxT) Pin Spacing 5.08 mm (typ))
simulation model CAP (Capacitor)
signal-integrity model Cap
pins: 1, 2

## VP43BA332KB
designator C?
Dipped Radial Multilayer Ceramic Capacitor COG (NPO): 3300pF, 100V; Note: See Datasheet for other packages & tolerances; Value: 3.3nF; Published: 17-Dec-2003; DatasheetDocument: 2-Jan-2002; PackageDocument: 8-Feb-2002; PackageReference: VP43-2.5; Publisher: Altium Limited; ComponentLink1Description: Manufacturer Link; ComponentLink1URL: http://www.vishay.com/
footprint VP43-2.5 (Capacitor, Ceramic, Thru-Hole, Dipped Radial; Body 6.8 x 2.5 mm (WxT) Pin Spacing 5.08 mm (typ))
simulation model CAP (Capacitor)
signal-integrity model Cap
pins: 1, 2

## VP43BA332KC
designator C?
Dipped Radial Multilayer Ceramic Capacitor COG (NPO): 3300pF, 200V; Value: 3.3nF; Published: 17-Dec-2003; DatasheetDocument: 7-Jan-2002; PackageDocument: 7-Jan-2002; PackageReference: VP43-3.2; Publisher: Altium Limited; ComponentLink1Description: Manufacturer Link; ComponentLink1URL: http://www.vishay.com/
footprint VP43-3.2 (Capacitor, Ceramic, Thru-Hole, Dipped Radial; Body 6.8 x 3.2 mm (WxT) Pin Spacing 5.08 mm (typ))
simulation model CAP (Capacitor)
signal-integrity model Cap
pins: 1, 2

## VP43BA332KE
designator C?
Dipped Radial Multilayer Ceramic Capacitor COG (NPO): 3300pF, 500V; Value: 3.3nF; Published: 17-Dec-2003; DatasheetDocument: 7-Jan-2002; PackageDocument: 7-Jan-2002; PackageReference: VP43-3.2; Publisher: Altium Limited; ComponentLink1Description: Manufacturer Link; ComponentLink1URL: http://www.vishay.com/
footprint VP43-3.2 (Capacitor, Ceramic, Thru-Hole, Dipped Radial; Body 6.8 x 3.2 mm (WxT) Pin Spacing 5.08 mm (typ))
simulation model CAP (Capacitor)
signal-integrity model Cap
pins: 1, 2

## VP43BA390JE
designator C?
Dipped Radial Multilayer Ceramic Capacitor COG (NPO): 39pF, 500V; Published: 17-Dec-2003; DatasheetDocument: 7-Jan-2002; PackageDocument: 7-Jan-2002; PackageReference: VP43-3.2; Publisher: Altium Limited; ComponentLink1Description: Manufacturer Link; ComponentLink1URL: http://www.vishay.com/; Value: 39pF
footprint VP43-3.2 (Capacitor, Ceramic, Thru-Hole, Dipped Radial; Body 6.8 x 3.2 mm (WxT) Pin Spacing 5.08 mm (typ))
simulation model CAP (Capacitor)
signal-integrity model Cap
pins: 1, 2

## VP43BA390KE
designator C?
Dipped Radial Multilayer Ceramic Capacitor COG (NPO): 39pF, 500V; Published: 17-Dec-2003; DatasheetDocument: 7-Jan-2002; PackageDocument: 7-Jan-2002; PackageReference: VP43-3.2; Publisher: Altium Limited; ComponentLink1Description: Manufacturer Link; ComponentLink1URL: http://www.vishay.com/; Value: 39pF
footprint VP43-3.2 (Capacitor, Ceramic, Thru-Hole, Dipped Radial; Body 6.8 x 3.2 mm (WxT) Pin Spacing 5.08 mm (typ))
simulation model CAP (Capacitor)
signal-integrity model Cap
pins: 1, 2

## VP43BA391FC
designator C?
Dipped Radial Multilayer Ceramic Capacitor COG (NPO): 390pF, 200V; Published: 17-Dec-2003; DatasheetDocument: 7-Jan-2002; PackageDocument: 7-Jan-2002; PackageReference: VP43-3.2; Publisher: Altium Limited; ComponentLink1Description: Manufacturer Link; ComponentLink1URL: http://www.vishay.com/; Value: 390pF
footprint VP43-3.2 (Capacitor, Ceramic, Thru-Hole, Dipped Radial; Body 6.8 x 3.2 mm (WxT) Pin Spacing 5.08 mm (typ))
simulation model CAP (Capacitor)
signal-integrity model Cap
pins: 1, 2

## VP43BA391FE
designator C?
Dipped Radial Multilayer Ceramic Capacitor COG (NPO): 390pF, 500V; Published: 17-Dec-2003; DatasheetDocument: 7-Jan-2002; PackageDocument: 7-Jan-2002; PackageReference: VP43-3.2; Publisher: Altium Limited; ComponentLink1Description: Manufacturer Link; ComponentLink1URL: http://www.vishay.com/; Value: 390pF
footprint VP43-3.2 (Capacitor, Ceramic, Thru-Hole, Dipped Radial; Body 6.8 x 3.2 mm (WxT) Pin Spacing 5.08 mm (typ))
simulation model CAP (Capacitor)
signal-integrity model Cap
pins: 1, 2

## VP43BA391GC
designator C?
Dipped Radial Multilayer Ceramic Capacitor COG (NPO): 390pF, 200V; Published: 17-Dec-2003; DatasheetDocument: 7-Jan-2002; PackageDocument: 7-Jan-2002; PackageReference: VP43-3.2; Publisher: Altium Limited; ComponentLink1Description: Manufacturer Link; ComponentLink1URL: http://www.vishay.com/; Value: 390pF
footprint VP43-3.2 (Capacitor, Ceramic, Thru-Hole, Dipped Radial; Body 6.8 x 3.2 mm (WxT) Pin Spacing 5.08 mm (typ))
simulation model CAP (Capacitor)
signal-integrity model Cap
pins: 1, 2

## VP43BA391GE
designator C?
Dipped Radial Multilayer Ceramic Capacitor COG (NPO): 390pF, 500V; Published: 17-Dec-2003; DatasheetDocument: 7-Jan-2002; PackageDocument: 7-Jan-2002; PackageReference: VP43-3.2; Publisher: Altium Limited; ComponentLink1Description: Manufacturer Link; ComponentLink1URL: http://www.vishay.com/; Value: 390pF
footprint VP43-3.2 (Capacitor, Ceramic, Thru-Hole, Dipped Radial; Body 6.8 x 3.2 mm (WxT) Pin Spacing 5.08 mm (typ))
simulation model CAP (Capacitor)
signal-integrity model Cap
pins: 1, 2

## VP43BA391JC
designator C?
Dipped Radial Multilayer Ceramic Capacitor COG (NPO): 390pF, 200V; Published: 17-Dec-2003; DatasheetDocument: 7-Jan-2002; PackageDocument: 7-Jan-2002; PackageReference: VP43-3.2; Publisher: Altium Limited; ComponentLink1Description: Manufacturer Link; ComponentLink1URL: http://www.vishay.com/; Value: 390pF
footprint VP43-3.2 (Capacitor, Ceramic, Thru-Hole, Dipped Radial; Body 6.8 x 3.2 mm (WxT) Pin Spacing 5.08 mm (typ))
simulation model CAP (Capacitor)
signal-integrity model Cap
pins: 1, 2

## VP43BA391JE
designator C?
Dipped Radial Multilayer Ceramic Capacitor COG (NPO): 390pF, 500V; Published: 17-Dec-2003; DatasheetDocument: 7-Jan-2002; PackageDocument: 7-Jan-2002; PackageReference: VP43-3.2; Publisher: Altium Limited; ComponentLink1Description: Manufacturer Link; ComponentLink1URL: http://www.vishay.com/; Value: 390pF
footprint VP43-3.2 (Capacitor, Ceramic, Thru-Hole, Dipped Radial; Body 6.8 x 3.2 mm (WxT) Pin Spacing 5.08 mm (typ))
simulation model CAP (Capacitor)
signal-integrity model Cap
pins: 1, 2

## VP43BA391KC
designator C?
Dipped Radial Multilayer Ceramic Capacitor COG (NPO): 390pF, 200V; Published: 17-Dec-2003; DatasheetDocument: 7-Jan-2002; PackageDocument: 7-Jan-2002; PackageReference: VP43-3.2; Publisher: Altium Limited; ComponentLink1Description: Manufacturer Link; ComponentLink1URL: http://www.vishay.com/; Value: 390pF
footprint VP43-3.2 (Capacitor, Ceramic, Thru-Hole, Dipped Radial; Body 6.8 x 3.2 mm (WxT) Pin Spacing 5.08 mm (typ))
simulation model CAP (Capacitor)
signal-integrity model Cap
pins: 1, 2

## VP43BA391KE
designator C?
Dipped Radial Multilayer Ceramic Capacitor COG (NPO): 390pF, 500V; Published: 17-Dec-2003; DatasheetDocument: 7-Jan-2002; PackageDocument: 7-Jan-2002; PackageReference: VP43-3.2; Publisher: Altium Limited; ComponentLink1Description: Manufacturer Link; ComponentLink1URL: http://www.vishay.com/; Value: 390pF
footprint VP43-3.2 (Capacitor, Ceramic, Thru-Hole, Dipped Radial; Body 6.8 x 3.2 mm (WxT) Pin Spacing 5.08 mm (typ))
simulation model CAP (Capacitor)
signal-integrity model Cap
pins: 1, 2

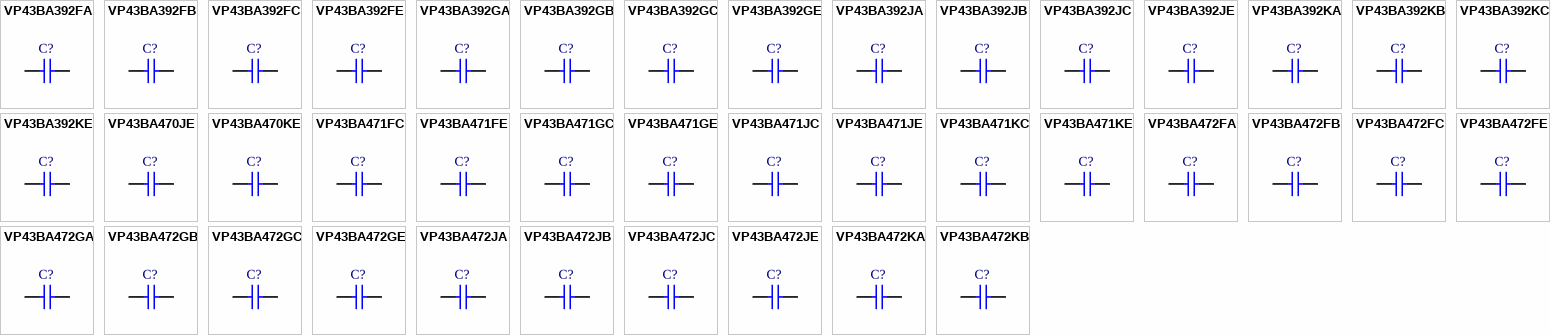
[diagram p51: symbols VP43BA392FA to VP43BA472KB]

## VP43BA392FA
designator C?
Dipped Radial Multilayer Ceramic Capacitor COG (NPO): 3900pF, 50/63V; Note: See Datasheet for other packages & tolerances; Value: 3.9nF; Published: 17-Dec-2003; DatasheetDocument: 2-Jan-2002; PackageDocument: 8-Feb-2002; PackageReference: VP43-2.5; Publisher: Altium Limited; ComponentLink1Description: Manufacturer Link; ComponentLink1URL: http://www.vishay.com/
footprint VP43-2.5 (Capacitor, Ceramic, Thru-Hole, Dipped Radial; Body 6.8 x 2.5 mm (WxT) Pin Spacing 5.08 mm (typ))
simulation model CAP (Capacitor)
signal-integrity model Cap
pins: 1, 2

## VP43BA392FB
designator C?
Dipped Radial Multilayer Ceramic Capacitor COG (NPO): 3900pF, 100V; Note: See Datasheet for other packages & tolerances; Value: 3.9nF; Published: 17-Dec-2003; DatasheetDocument: 2-Jan-2002; PackageDocument: 8-Feb-2002; PackageReference: VP43-2.5; Publisher: Altium Limited; ComponentLink1Description: Manufacturer Link; ComponentLink1URL: http://www.vishay.com/
footprint VP43-2.5 (Capacitor, Ceramic, Thru-Hole, Dipped Radial; Body 6.8 x 2.5 mm (WxT) Pin Spacing 5.08 mm (typ))
simulation model CAP (Capacitor)
signal-integrity model Cap
pins: 1, 2

## VP43BA392FC
designator C?
Dipped Radial Multilayer Ceramic Capacitor COG (NPO): 3900pF, 200V; Value: 3.9nF; Published: 17-Dec-2003; DatasheetDocument: 7-Jan-2002; PackageDocument: 7-Jan-2002; PackageReference: VP43-3.2; Publisher: Altium Limited; ComponentLink1Description: Manufacturer Link; ComponentLink1URL: http://www.vishay.com/
footprint VP43-3.2 (Capacitor, Ceramic, Thru-Hole, Dipped Radial; Body 6.8 x 3.2 mm (WxT) Pin Spacing 5.08 mm (typ))
simulation model CAP (Capacitor)
signal-integrity model Cap
pins: 1, 2

## VP43BA392FE
designator C?
Dipped Radial Multilayer Ceramic Capacitor COG (NPO): 3900pF, 500V; Value: 3.9nF; Published: 17-Dec-2003; DatasheetDocument: 7-Jan-2002; PackageDocument: 7-Jan-2002; PackageReference: VP43-3.2; Publisher: Altium Limited; ComponentLink1Description: Manufacturer Link; ComponentLink1URL: http://www.vishay.com/
footprint VP43-3.2 (Capacitor, Ceramic, Thru-Hole, Dipped Radial; Body 6.8 x 3.2 mm (WxT) Pin Spacing 5.08 mm (typ))
simulation model CAP (Capacitor)
signal-integrity model Cap
pins: 1, 2

## VP43BA392GA
designator C?
Dipped Radial Multilayer Ceramic Capacitor COG (NPO): 3900pF, 50/63V; Note: See Datasheet for other packages & tolerances; Value: 3.9nF; Published: 17-Dec-2003; DatasheetDocument: 2-Jan-2002; PackageDocument: 8-Feb-2002; PackageReference: VP43-2.5; Publisher: Altium Limited; ComponentLink1Description: Manufacturer Link; ComponentLink1URL: http://www.vishay.com/
footprint VP43-2.5 (Capacitor, Ceramic, Thru-Hole, Dipped Radial; Body 6.8 x 2.5 mm (WxT) Pin Spacing 5.08 mm (typ))
simulation model CAP (Capacitor)
signal-integrity model Cap
pins: 1, 2

## VP43BA392GB
designator C?
Dipped Radial Multilayer Ceramic Capacitor COG (NPO): 3900pF, 100V; Note: See Datasheet for other packages & tolerances; Value: 3.9nF; Published: 17-Dec-2003; DatasheetDocument: 2-Jan-2002; PackageDocument: 8-Feb-2002; PackageReference: VP43-2.5; Publisher: Altium Limited; ComponentLink1Description: Manufacturer Link; ComponentLink1URL: http://www.vishay.com/
footprint VP43-2.5 (Capacitor, Ceramic, Thru-Hole, Dipped Radial; Body 6.8 x 2.5 mm (WxT) Pin Spacing 5.08 mm (typ))
simulation model CAP (Capacitor)
signal-integrity model Cap
pins: 1, 2

## VP43BA392GC
designator C?
Dipped Radial Multilayer Ceramic Capacitor COG (NPO): 3900pF, 200V; Value: 3.9nF; Published: 17-Dec-2003; DatasheetDocument: 7-Jan-2002; PackageDocument: 7-Jan-2002; PackageReference: VP43-3.2; Publisher: Altium Limited; ComponentLink1Description: Manufacturer Link; ComponentLink1URL: http://www.vishay.com/
footprint VP43-3.2 (Capacitor, Ceramic, Thru-Hole, Dipped Radial; Body 6.8 x 3.2 mm (WxT) Pin Spacing 5.08 mm (typ))
simulation model CAP (Capacitor)
signal-integrity model Cap
pins: 1, 2

## VP43BA392GE
designator C?
Dipped Radial Multilayer Ceramic Capacitor COG (NPO): 3900pF, 500V; Value: 3.9nF; Published: 17-Dec-2003; DatasheetDocument: 7-Jan-2002; PackageDocument: 7-Jan-2002; PackageReference: VP43-3.2; Publisher: Altium Limited; ComponentLink1Description: Manufacturer Link; ComponentLink1URL: http://www.vishay.com/
footprint VP43-3.2 (Capacitor, Ceramic, Thru-Hole, Dipped Radial; Body 6.8 x 3.2 mm (WxT) Pin Spacing 5.08 mm (typ))
simulation model CAP (Capacitor)
signal-integrity model Cap
pins: 1, 2

## VP43BA392JA
designator C?
Dipped Radial Multilayer Ceramic Capacitor COG (NPO): 3900pF, 50/63V; Note: See Datasheet for other packages & tolerances; Value: 3.9nF; Published: 17-Dec-2003; DatasheetDocument: 2-Jan-2002; PackageDocument: 8-Feb-2002; PackageReference: VP43-2.5; Publisher: Altium Limited; ComponentLink1Description: Manufacturer Link; ComponentLink1URL: http://www.vishay.com/
footprint VP43-2.5 (Capacitor, Ceramic, Thru-Hole, Dipped Radial; Body 6.8 x 2.5 mm (WxT) Pin Spacing 5.08 mm (typ))
simulation model CAP (Capacitor)
signal-integrity model Cap
pins: 1, 2

## VP43BA392JB
designator C?
Dipped Radial Multilayer Ceramic Capacitor COG (NPO): 3900pF, 100V; Note: See Datasheet for other packages & tolerances; Value: 3.9nF; Published: 17-Dec-2003; DatasheetDocument: 2-Jan-2002; PackageDocument: 8-Feb-2002; PackageReference: VP43-2.5; Publisher: Altium Limited; ComponentLink1Description: Manufacturer Link; ComponentLink1URL: http://www.vishay.com/
footprint VP43-2.5 (Capacitor, Ceramic, Thru-Hole, Dipped Radial; Body 6.8 x 2.5 mm (WxT) Pin Spacing 5.08 mm (typ))
simulation model CAP (Capacitor)
signal-integrity model Cap
pins: 1, 2

## VP43BA392JC
designator C?
Dipped Radial Multilayer Ceramic Capacitor COG (NPO): 3900pF, 200V; Value: 3.9nF; Published: 17-Dec-2003; DatasheetDocument: 7-Jan-2002; PackageDocument: 7-Jan-2002; PackageReference: VP43-3.2; Publisher: Altium Limited; ComponentLink1Description: Manufacturer Link; ComponentLink1URL: http://www.vishay.com/
footprint VP43-3.2 (Capacitor, Ceramic, Thru-Hole, Dipped Radial; Body 6.8 x 3.2 mm (WxT) Pin Spacing 5.08 mm (typ))
simulation model CAP (Capacitor)
signal-integrity model Cap
pins: 1, 2

## VP43BA392JE
designator C?
Dipped Radial Multilayer Ceramic Capacitor COG (NPO): 3900pF, 500V; Value: 3.9nF; Published: 17-Dec-2003; DatasheetDocument: 7-Jan-2002; PackageDocument: 7-Jan-2002; PackageReference: VP43-3.2; Publisher: Altium Limited; ComponentLink1Description: Manufacturer Link; ComponentLink1URL: http://www.vishay.com/
footprint VP43-3.2 (Capacitor, Ceramic, Thru-Hole, Dipped Radial; Body 6.8 x 3.2 mm (WxT) Pin Spacing 5.08 mm (typ))
simulation model CAP (Capacitor)
signal-integrity model Cap
pins: 1, 2

## VP43BA392KA
designator C?
Dipped Radial Multilayer Ceramic Capacitor COG (NPO): 3900pF, 50/63V; Note: See Datasheet for other packages & tolerances; Value: 3.9nF; Published: 17-Dec-2003; DatasheetDocument: 2-Jan-2002; PackageDocument: 8-Feb-2002; PackageReference: VP43-2.5; Publisher: Altium Limited; ComponentLink1Description: Manufacturer Link; ComponentLink1URL: http://www.vishay.com/
footprint VP43-2.5 (Capacitor, Ceramic, Thru-Hole, Dipped Radial; Body 6.8 x 2.5 mm (WxT) Pin Spacing 5.08 mm (typ))
simulation model CAP (Capacitor)
signal-integrity model Cap
pins: 1, 2

## VP43BA392KB
designator C?
Dipped Radial Multilayer Ceramic Capacitor COG (NPO): 3900pF, 100V; Note: See Datasheet for other packages & tolerances; Value: 3.9nF; Published: 17-Dec-2003; DatasheetDocument: 2-Jan-2002; PackageDocument: 8-Feb-2002; PackageReference: VP43-2.5; Publisher: Altium Limited; ComponentLink1Description: Manufacturer Link; ComponentLink1URL: http://www.vishay.com/
footprint VP43-2.5 (Capacitor, Ceramic, Thru-Hole, Dipped Radial; Body 6.8 x 2.5 mm (WxT) Pin Spacing 5.08 mm (typ))
simulation model CAP (Capacitor)
signal-integrity model Cap
pins: 1, 2

## VP43BA392KC
designator C?
Dipped Radial Multilayer Ceramic Capacitor COG (NPO): 3900pF, 200V; Value: 3.9nF; Published: 17-Dec-2003; DatasheetDocument: 7-Jan-2002; PackageDocument: 7-Jan-2002; PackageReference: VP43-3.2; Publisher: Altium Limited; ComponentLink1Description: Manufacturer Link; ComponentLink1URL: http://www.vishay.com/
footprint VP43-3.2 (Capacitor, Ceramic, Thru-Hole, Dipped Radial; Body 6.8 x 3.2 mm (WxT) Pin Spacing 5.08 mm (typ))
simulation model CAP (Capacitor)
signal-integrity model Cap
pins: 1, 2

## VP43BA392KE
designator C?
Dipped Radial Multilayer Ceramic Capacitor COG (NPO): 3900pF, 500V; Value: 3.9nF; Published: 17-Dec-2003; DatasheetDocument: 7-Jan-2002; PackageDocument: 7-Jan-2002; PackageReference: VP43-3.2; Publisher: Altium Limited; ComponentLink1Description: Manufacturer Link; ComponentLink1URL: http://www.vishay.com/
footprint VP43-3.2 (Capacitor, Ceramic, Thru-Hole, Dipped Radial; Body 6.8 x 3.2 mm (WxT) Pin Spacing 5.08 mm (typ))
simulation model CAP (Capacitor)
signal-integrity model Cap
pins: 1, 2